# Altium integrated library Zarlink Peripheral Bus Interface Controller.IntLib: 3 symbols
Pins are listed as number, name and electrical type; pins without a type are passive.

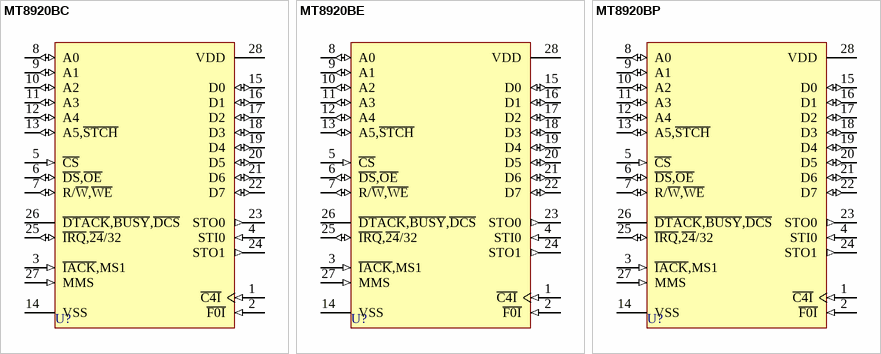
[diagram p0: symbols MT8920BC to MT8920BP]

## MT8920BC
designator U?
ST-BUS Parallel Access Circuit; Published: 8-Jun-2000; LatestRevisionDate: 17-Jul-2002; LatestRevisionNote: Re-released for DXP Platform.; DatasheetVersion: Issue 5 May 1995; PackageVersion: 1995; PackageReference: CDIP28; Publisher: Altium Limited; PackageDescription: DIP; 28 Leads; Row Spacing 15.24 mm; Pitch 2.54 mm; ComponentLink1Description: Manufacturer Link; ComponentLink1URL: http://www.zarlink.com/
footprint CDIP28 (DIP; 28 Leads; Row Spacing 15.24 mm; Pitch 2.54 mm)
pins: 1 ~{C4I} (in), 2 ~{F0I} (in), 3 ~{IACK},MS1 (in), 4 STI0 (in), 5 ~{CS} (in), 6 ~{DS},~{OE} (io), 7 R/~{W},~{WE} (io), 8 A0 (io), 9 A1 (io), 10 A2 (io), 11 A3 (io), 12 A4 (io), 13 A5,~{STCH} (io), 14 VSS (power), 15 D0 (io), 16 D1 (io), 17 D2 (io), 18 D3 (io), 19 D4 (io), 20 D5 (io), 21 D6 (io), 22 D7 (io), 23 STO0 (out), 24 STO1 (out), 25 ~{IRQ},~{24}/32 (io), 26 ~{DTACK},~{BUSY},~{DCS} (oc), 27 MMS (in), 28 VDD (power)

## MT8920BE
designator U?
ST-BUS Parallel Access Circuit; Published: 8-Jun-2000; LatestRevisionDate: 17-Jul-2002; LatestRevisionNote: Re-released for DXP Platform.; DatasheetVersion: Issue 7 March 1997; PackageVersion: 1997; PackageReference: PDIP28; Publisher: Altium Limited; PackageDescription: DIP; 28 Leads; Row Spacing 15.24 mm; Pitch 2.54 mm; Code_JEDEC: MS-011-AB; ComponentLink1Description: Manufacturer Link; ComponentLink1URL: http://www.zarlink.com/
footprint PDIP28 (DIP; 28 Leads; Row Spacing 15.24 mm; Pitch 2.54 mm)
pins: 1 ~{C4I} (in), 2 ~{F0I} (in), 3 ~{IACK},MS1 (in), 4 STI0 (in), 5 ~{CS} (in), 6 ~{DS},~{OE} (io), 7 R/~{W},~{WE} (io), 8 A0 (io), 9 A1 (io), 10 A2 (io), 11 A3 (io), 12 A4 (io), 13 A5,~{STCH} (io), 14 VSS (power), 15 D0 (io), 16 D1 (io), 17 D2 (io), 18 D3 (io), 19 D4 (io), 20 D5 (io), 21 D6 (io), 22 D7 (io), 23 STO0 (out), 24 STO1 (out), 25 ~{IRQ},~{24}/32 (io), 26 ~{DTACK},~{BUSY},~{DCS} (oc), 27 MMS (in), 28 VDD (power)

## MT8920BP
designator U?
ST-BUS Parallel Access Circuit; Published: 8-Jun-2000; LatestRevisionDate: 13-Apr-2006; LatestRevisionNote: IPC-7351 Footprint Added.; DatasheetVersion: Issue 7 March 1997; PackageVersion: 1997; PackageReference: PLCC28; Publisher: Altium Limited; PackageDescription: 28-Pin Leaded Chip Carrier 1.27 mm Pitch; Code_IPC: PLCC-28; ComponentLink1Description: Manufacturer Link; ComponentLink1URL: http://www.zarlink.com/
footprint PLCC28_N (Leaded Chip Carrier, 28-Leads, Body 11.5x11.5mm, Pitch 1.27mm, IPC Medium Density)
footprint PLCC28_L (Leaded Chip Carrier, 28-Leads, Body 11.5x11.5mm, Pitch 1.27mm, IPC High Density)
footprint PLCC28_M (Leaded Chip Carrier, 28-Leads, Body 11.5x11.5mm, Pitch 1.27mm, IPC Low Density)
pins: 1 ~{C4I} (in), 2 ~{F0I} (in), 3 ~{IACK},MS1 (in), 4 STI0 (in), 5 ~{CS} (in), 6 ~{DS},~{OE} (io), 7 R/~{W},~{WE} (io), 8 A0 (io), 9 A1 (io), 10 A2 (io), 11 A3 (io), 12 A4 (io), 13 A5,~{STCH} (io), 14 VSS (power), 15 D0 (io), 16 D1 (io), 17 D2 (io), 18 D3 (io), 19 D4 (io), 20 D5 (io), 21 D6 (io), 22 D7 (io), 23 STO0 (out), 24 STO1 (out), 25 ~{IRQ},~{24}/32 (io), 26 ~{DTACK},~{BUSY},~{DCS} (oc), 27 MMS (in), 28 VDD (power)